# Altium footprint library PcbLib1.PcbLib: 1 footprints
Each footprint in its own frame and in the unit in brackets; x right, y up, seen from the top. Pads: shape width x height; smd on the part's side, far side on the other; paste and mask are expansions set on the pad; w line width, h text height; cw(c..) or ccw(c..) is an arc to the next point about the centre after c.
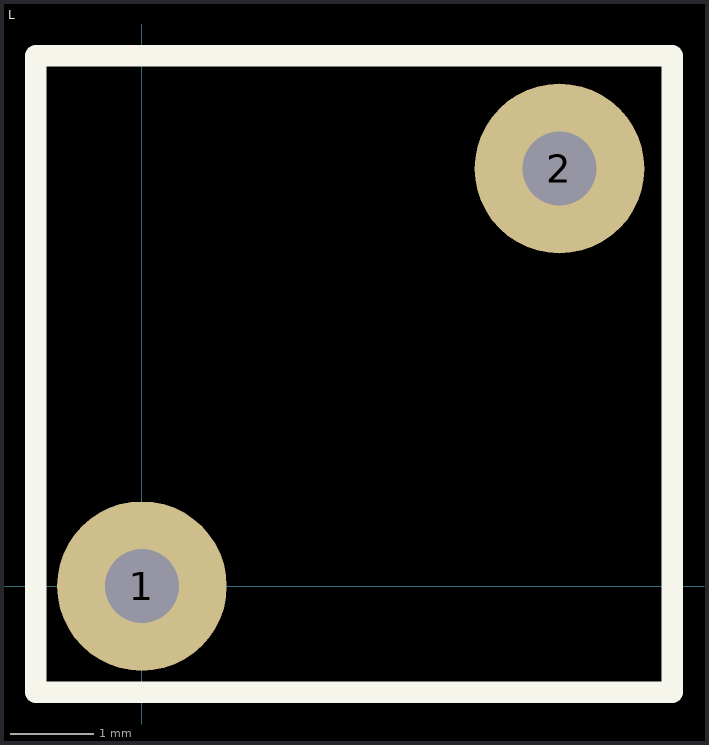
[diagram p0: the footprint, top view; thin cyan lines are the x and y axes]

## L [mil]
pads (2):
  round 80 hole 35: 1(0,0) 2(196.85,196.85)
Top Overlay:
  lines w10: -50,-50 250,-50 250,250 -50,250 -50,-50